# EAGLE library part HEADER-10P (library Connector)
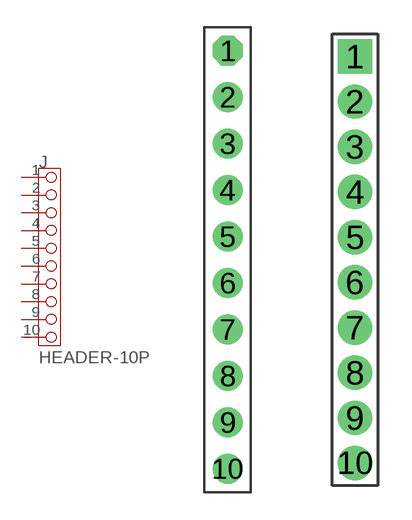
[diagram p16: symbol with the pads of 10P-2.54-DIP; footprints 10P-2.54-DIP, 10P-2.0-DIP]

Designator prefix J

## HEADER-10P-2.54  [10P-2.54-DIP]
1  1
2  2
3  3
4  4
5  5
6  6
7  7
8  8
9  9
10  10

## HEADER-10P-2.0  [10P-2.0-DIP]
Pads as for 10P-2.54-DIP

## Footprint 10P-2.54-DIP (pad centres in mm)
drill 0.889 pad 1.651 octagon: 1 0,11.43
drill 0.889 pad 1.651 round: 2 0,8.89; 3 0,6.35; 4 0,3.81; 5 0,1.27; 6 0,-1.27; 7 0,-3.81; 8 0,-6.35; 9 0,-8.89; 10 0,-11.43

## Footprint 10P-2.0-DIP (pad centres in mm)
drill 0.813 pad 1.524 square: 1 0,9
drill 0.813 pad 1.524 round: 2 0,7; 3 0,5; 4 0,3; 5 0,1; 6 0,-1; 7 0,-3; 8 0,-5; 9 0,-7; 10 0,-9